# EAGLE library part HR961160C (library HR961160C)
1x1 Port Tab-UP Surface Mount RJ45 Connector Source: Datasheet <http://rgho.st/8sNRdCWNy> Check availability <https://pricing.snapeda.com/parts/HR961160C/HanRun/view-part?ref=eda>
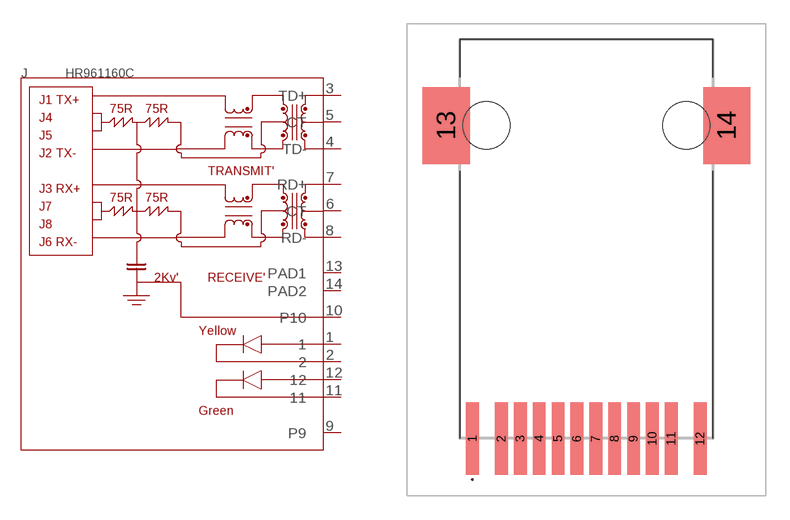
[diagram p0: symbol with the pads of HR961160C; footprint HR961160C]

Designator prefix J

## HR961160C (Availability: Not in stock; Description: 1x1 Port Tab-UP Surface Mount RJ45 Connector with Magnetics Module and LED for 10/100Base-TX NIC Applications.; MF: HanRun; MP: HR961160C; Package: Package; Price: None)  [HR961160C]
1  1
2  2
3  TD+
4  TD-
5  CT
6  CT
7  RD+
8  RD-
9  P9
10  P10
11  11
12  12
13  PAD1
14  PAD2

## Footprint HR961160C (pad centres in mm)
HR961160C
smd 0.81 x 4.6: 1 -7.24,-11.375; 2 -5.4,-11.375; 3 -4.2,-11.375; 4 -3,-11.375; 5 -1.8,-11.375; 6 -0.6,-11.375; 7 0.6,-11.375; 8 1.8,-11.375; 9 3,-11.375; 10 4.2,-11.375; 11 5.4,-11.375; 12 7.24,-11.375
smd 3 x 4.9: 13 -8.92,8.545; 14 8.92,8.545
hole 3 at -6.35,8.545
hole 3 at 6.35,8.545